# Altium footprint library SamacSys.PcbLib: 16 footprints
Each footprint in its own frame and in the unit in brackets; x right, y up, seen from the top. Pads: shape width x height; smd on the part's side, far side on the other; paste and mask are expansions set on the pad; w line width, h text height; cw(c..) or ccw(c..) is an arc to the next point about the centre after c.
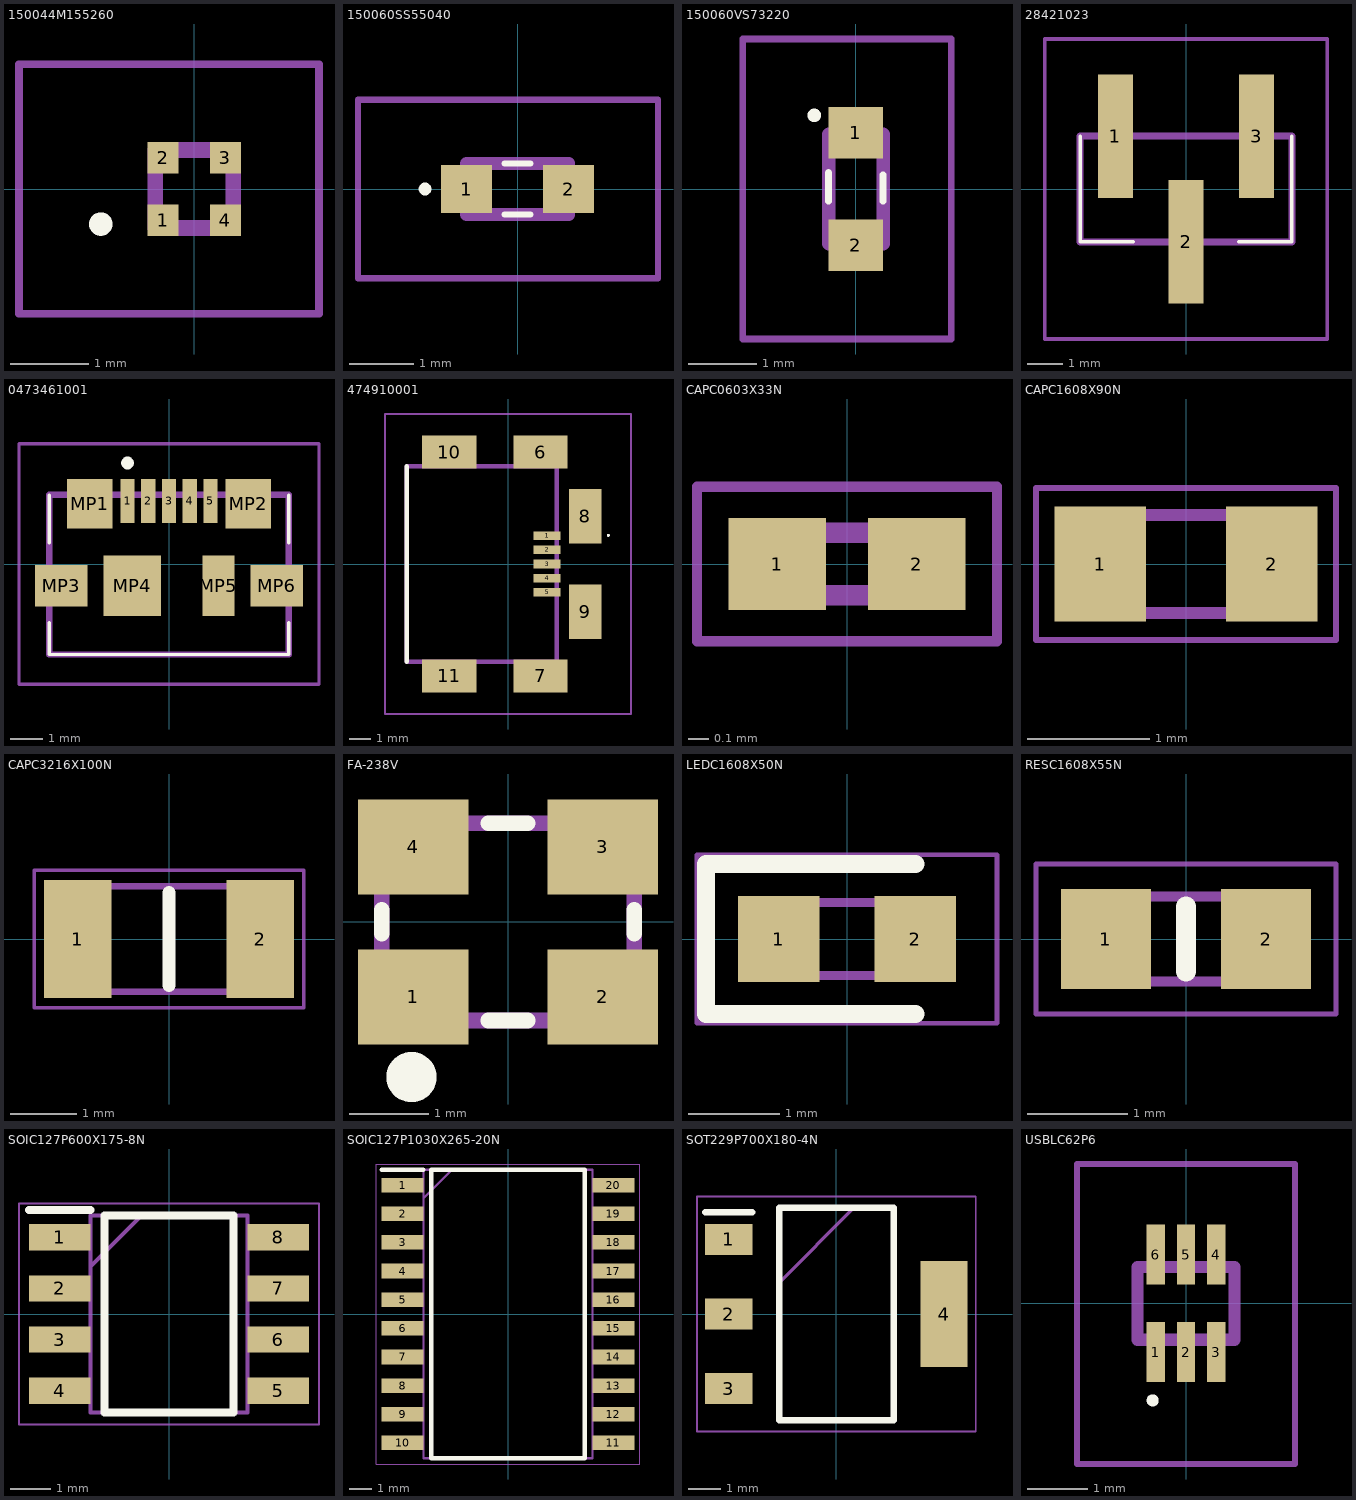
[diagram p0: the footprints below, top view; thin cyan lines are the x and y axes]

## 150044M155260 [mm]
pads (4):
  rect 0.4x0.4 smd: 1(-0.4,-0.4) 2(-0.4,0.4) 3(0.4,0.4) 4(0.4,-0.4)
Top Overlay:
  lines w0.2: -1.2,-0.5 ccw(c-1.2,-0.45) -1.2,-0.4 ; -1.2,-0.5 cw(c-1.2,-0.45) -1.2,-0.4 ; -1.2,-0.5 ccw(c-1.2,-0.45) -1.2,-0.4
Mechanical 13:
  lines w0.2: -0.5,-0.5 0.5,-0.5 0.5,0.5 -0.5,0.5 -0.5,-0.5
Mechanical 15:
  lines w0.1: -2.25,-1.6 1.6,-1.6 ; -2.25,-1.6 -2.25,1.6 ; -2.25,-1.6 1.6,-1.6 ; -2.25,-1.6 -2.25,1.6 ; -2.25,1.6 1.6,1.6 ; -2.25,1.6 1.6,1.6 ; 1.6,-1.6 1.6,1.6 ; 1.6,-1.6 1.6,1.6
3D body "150044M155260.stp": height 0.67, standoff 0.02, extent -0.52,-0.5 0.48,0.5

## 150060SS55040 [mm]
pads (2):
  rect 0.8x0.75 smd: 1(-0.8,0) 2(0.8,0)
Top Overlay:
  lines w0.1: -0.2,-0.4 0.2,-0.4 ; -0.2,0.4 0.2,0.4 ; -1.5,0 cw(c-1.45,0) -1.4,0 cw(c-1.45,0) -1.5,0
Mechanical 13:
  lines w0.2: -0.8,-0.4 0.8,-0.4 0.8,0.4 -0.8,0.4 -0.8,-0.4
Mechanical 15:
  lines w0.1: -2.5,-1.4 2.2,-1.4 2.2,1.4 -2.5,1.4 -2.5,-1.4
3D body "150060SS55040.stp": height 0.4, standoff 0, extent -0.8,-0.4 0.8,0.4

## 150060VS73220 [mm]
pads (2):
  rect 0.8x0.75 smd: 1(0,0.825) 2(0,-0.825)
Top Overlay:
  lines w0.1: -0.4,-0.18 -0.4,0.24 ; 0.4,-0.18 0.4,0.21 ; -0.66,1.08 cw(c-0.61,1.08) -0.56,1.08 cw(c-0.61,1.08) -0.66,1.08
Mechanical 13:
  lines w0.2: -0.4,-0.8 -0.4,0.8 0.4,0.8 0.4,-0.8 -0.4,-0.8
Mechanical 15:
  lines w0.1: -1.66,-2.2 -1.66,2.2 1.4,2.2 1.4,-2.2 -1.66,-2.2

## 28421023 [mm]
pads (3):
  rect 1x3.5 smd: 1(-2,1.5) 2(0,-1.5) 3(2,1.5)
Top Overlay:
  lines w0.1: -3,1.5 -3,-1.5 -1.5,-1.5 ; 1.5,-1.5 3,-1.5 3,1.5
Mechanical 13:
  lines w0.2: -3,-1.5 -3,1.5 3,1.5 3,-1.5 -3,-1.5
Mechanical 15:
  lines w0.1: -4,-4.25 -4,4.25 4,4.25 4,-4.25 -4,-4.25
3D body "2842102-3.stp": height 6.1, standoff 0, extent -3,-2.25 3,2.25

## 0473461001 [mm]
pads (11):
  rect 0.45x1.38 smd: 1(-1.3,1.975) 2(-0.65,1.975) 3(0,1.975) 4(0.65,1.975) 5(1.3,1.975)
  rect 1.425x1.55 smd: MP1(-2.487,1.89) MP2(2.487,1.89)
  rect 1.65x1.3 smd: MP3(-3.375,-0.685) MP6(3.375,-0.685)
  rect 1.8x1.9 smd: MP4(-1.15,-0.685)
  rect 1x1.9 smd: MP5(1.55,-0.685)
Top Overlay:
  lines w0.1: -3.75,-1.835 -3.75,-2.835 3.75,-2.835 3.75,-1.835 ; -3.75,0.665 -3.75,2.165 ; 3.75,0.665 3.75,2.165
  lines w0.2: -1.4,3.165 cw(c-1.3,3.165) -1.2,3.165 cw(c-1.3,3.165) -1.4,3.165
Mechanical 13:
  lines w0.2: -3.75,-2.835 -3.75,2.165 3.75,2.165 3.75,-2.835 -3.75,-2.835
Mechanical 15:
  lines w0.1: -4.7,-3.765 -4.7,3.765 4.7,3.765 4.7,-3.765 -4.7,-3.765
3D body "0473461001.stp": height 2.72, standoff 0.01, extent -3.9,-2.5 3.9,2.5

## 474910001 [mm]
pads (11):
  rect 1.25x0.4 smd: 1(1.795,1.3) 2(1.795,0.65) 3(1.795,0) 4(1.795,-0.65) 5(1.795,-1.3)
  rect 2.5x1.5 smd: 6(1.495,5.15) 7(1.495,-5.15) 10(-2.705,5.15) 11(-2.705,-5.15)
  rect 1.5x2.5 smd: 8(3.545,2.2) 9(3.545,-2.2)
Top Overlay:
  lines w0.073: 4.583,1.319 cw(c4.619,1.319) 4.655,1.319 cw(c4.619,1.319) 4.583,1.319
  lines w0.2: -4.655,-4.5 -4.655,4.5
Mechanical 13:
  lines w0.2: -4.655,-4.5 -4.655,4.5 2.245,4.5 2.245,-4.5 -4.655,-4.5
Mechanical 15:
  lines w0.1: -5.655,-6.9 -5.655,6.9 5.655,6.9 5.655,-6.9 -5.655,-6.9
3D body "47491-0001.stp": height 2.95, standoff 0, extent 0.02,-5.5 9.15,5.5

## CAPC0603X33N [mm]
pads (2):
  rect 0.47x0.44 smd: 1(-0.335,0) 2(0.335,0)
Mechanical 13:
  lines w0.1: -0.3,-0.15 -0.3,0.15 0.3,0.15 0.3,-0.15 -0.3,-0.15
Mechanical 15:
  lines w0.05: -0.72,-0.37 -0.72,0.37 0.72,0.37 0.72,-0.37 -0.72,-0.37
3D body "02016D474KAT2A.stp": height 0.33, standoff 0, extent -0.3,-0.15 0.3,0.15

## CAPC1608X90N [mm]
pads (2):
  rect 0.75x0.94 smd: 1(-0.7,0) 2(0.7,0)
Mechanical 13:
  lines w0.1: -0.8,-0.4 -0.8,0.4 0.8,0.4 0.8,-0.4 -0.8,-0.4
Mechanical 15:
  lines w0.05: -1.225,-0.62 -1.225,0.62 1.225,0.62 1.225,-0.62 -1.225,-0.62
3D body "GRM188R71C104KA01J.stp": height 0.8, standoff 0, extent -0.8,-0.45 0.8,0.45

## CAPC3216X100N [mm]
pads (2):
  rect 1.02x1.78 smd: 1(-1.38,0) 2(1.38,0)
Top Overlay:
  lines w0.2: 0,-0.7 0,0.7
Mechanical 13:
  lines w0.1: -1.6,-0.8 -1.6,0.8 1.6,0.8 1.6,-0.8 -1.6,-0.8
Mechanical 15:
  lines w0.05: -2.04,-1.04 -2.04,1.04 2.04,1.04 2.04,-1.04 -2.04,-1.04
3D body "CL31C220JBCNNNC.stp": height 1, standoff 0, extent -1.6,-0.8 1.6,0.8

## FA-238V [mm]
pads (4):
  rect 1.4x1.2 smd: 1(-1.2,-0.95) 2(1.2,-0.95) 3(1.2,0.95) 4(-1.2,0.95)
Top Overlay:
  circle w0.4: c-1.223,-1.965 r0.118
  lines w0.2: -1.6,-0.15 -1.6,0.15 ; -0.25,-1.25 0.25,-1.25 ; -0.25,1.25 0.25,1.25 ; 1.6,-0.15 1.6,0.15
Mechanical 13:
  lines w0.2: -1.6,-1.25 -1.6,1.25 1.6,1.25 1.6,-1.25 -1.6,-1.25
3D body "FA-238V_12.0000MB-W3.stp": height 0.7, standoff 0, extent -1.6,-1.25 1.6,1.25

## LEDC1608X50N [mm]
pads (2):
  rect 0.9x0.95 smd: 1(-0.75,0) 2(0.75,0)
Top Overlay:
  lines w0.2: 0.75,-0.825 -1.55,-0.825 -1.55,0.825 0.75,0.825
Mechanical 13:
  lines w0.1: -0.8,0.133 -0.533,0.4 ; -0.8,-0.4 -0.8,0.4 0.8,0.4 0.8,-0.4 -0.8,-0.4
Mechanical 15:
  lines w0.05: -1.65,-0.925 -1.65,0.925 1.65,0.925 1.65,-0.925 -1.65,-0.925
3D body "150060GS55040.stp": height 0.4, standoff 0, extent -0.8,-0.4 0.8,0.4

## RESC1608X55N [mm]
pads (2):
  rect 0.9x1 smd: 1(-0.8,0) 2(0.8,0)
Top Overlay:
  lines w0.2: 0,-0.325 0,0.325
Mechanical 13:
  lines w0.1: -0.8,-0.425 -0.8,0.425 0.8,0.425 0.8,-0.425 -0.8,-0.425
Mechanical 15:
  lines w0.05: -1.5,-0.75 -1.5,0.75 1.5,0.75 1.5,-0.75 -1.5,-0.75
3D body "ERJ-3EKF1001V.stp": height 0.45, standoff 0, extent -0.8,-0.4 0.8,0.4

## SOIC127P600X175-8N [mm]
pads (8):
  rect 1.525x0.65 smd: 1(-2.712,1.905) 2(-2.712,0.635) 3(-2.712,-0.635) 4(-2.712,-1.905) 5(2.712,-1.905) 6(2.712,-0.635) 7(2.712,0.635) 8(2.712,1.905)
Top Overlay:
  lines w0.2: -3.475,2.58 -1.95,2.58 ; -1.6,-2.45 1.6,-2.45 1.6,2.45 -1.6,2.45 -1.6,-2.45
Mechanical 13:
  lines w0.1: -1.95,1.18 -0.68,2.45 ; -1.95,-2.45 1.95,-2.45 1.95,2.45 -1.95,2.45 -1.95,-2.45
Mechanical 15:
  lines w0.05: -3.725,-2.75 3.725,-2.75 3.725,2.75 -3.725,2.75 -3.725,-2.75
3D body "NE555DR.stp": height 1.75, standoff 0, extent -3,-2.45 3,2.45

## SOIC127P1030X265-20N [mm]
pads (20):
  rect 1.85x0.65 smd: 1(-4.675,5.715) 2(-4.675,4.445) 3(-4.675,3.175) 4(-4.675,1.905) 5(-4.675,0.635) 6(-4.675,-0.635) 7(-4.675,-1.905) 8(-4.675,-3.175) 9(-4.675,-4.445) 10(-4.675,-5.715) 11(4.675,-5.715) 12(4.675,-4.445) 13(4.675,-3.175) 14(4.675,-1.905) 15(4.675,-0.635) 16(4.675,0.635) 17(4.675,1.905) 18(4.675,3.175) 19(4.675,4.445) 20(4.675,5.715)
Top Overlay:
  lines w0.2: -5.6,6.39 -3.75,6.39 ; -3.4,-6.4 -3.4,6.4 3.4,6.4 3.4,-6.4 -3.4,-6.4
Mechanical 13:
  lines w0.1: -3.75,5.13 -2.48,6.4 ; -3.75,-6.4 -3.75,6.4 3.75,6.4 3.75,-6.4 -3.75,-6.4
Mechanical 15:
  lines w0.05: -5.85,-6.65 -5.85,6.65 5.85,6.65 5.85,-6.65 -5.85,-6.65
3D body "MCP2200-I_SO.stp": height 2.65, standoff 0, extent -5.15,-6.4 5.15,6.4

## SOT229P700X180-4N [mm]
pads (4):
  rect 1.45x0.95 smd: 1(-3.3,2.29) 2(-3.3,0) 3(-3.3,-2.29)
  rect 1.45x3.25 smd: 4(3.3,0)
Top Overlay:
  lines w0.2: -4.025,3.115 -2.575,3.115 ; -1.752,-3.252 -1.752,3.252 1.752,3.252 1.752,-3.252 -1.752,-3.252
Mechanical 13:
  lines w0.1: -1.752,0.962 0.538,3.252 ; -1.752,-3.252 -1.752,3.252 1.752,3.252 1.752,-3.252 -1.752,-3.252
Mechanical 15:
  lines w0.05: -4.275,-3.605 -4.275,3.605 4.275,3.605 4.275,-3.605 -4.275,-3.605
3D body "AMS1117-3.3.stp": height 1.8, standoff 0, extent -3.355,-3.15 3.355,3.15

## USBLC62P6 [mm]
pads (6):
  rect 0.3x0.99 smd: 1(-0.5,-0.805) 2(0,-0.805) 3(0.5,-0.805) 4(0.5,0.805) 5(0,0.805) 6(-0.5,0.805)
Top Overlay:
  lines w0.1: -0.6,-1.6 cw(c-0.55,-1.6) -0.5,-1.6 cw(c-0.55,-1.6) -0.6,-1.6
Mechanical 13:
  lines w0.2: -0.8,-0.6 -0.8,0.6 0.8,0.6 0.8,-0.6 -0.8,-0.6
Mechanical 15:
  lines w0.1: -1.8,-2.65 -1.8,2.3 1.8,2.3 1.8,-2.65 -1.8,-2.65
3D body "USBLC6-2P6.stp": height 0.46, standoff 0, extent -0.75,-0.75 0.75,0.75